# Altium footprint library PcbLib.PcbLib: 12 footprints
Each footprint in its own frame and in the unit in brackets; x right, y up, seen from the top. Pads: shape width x height; smd on the part's side, far side on the other; paste and mask are expansions set on the pad; w line width, h text height; cw(c..) or ccw(c..) is an arc to the next point about the centre after c.
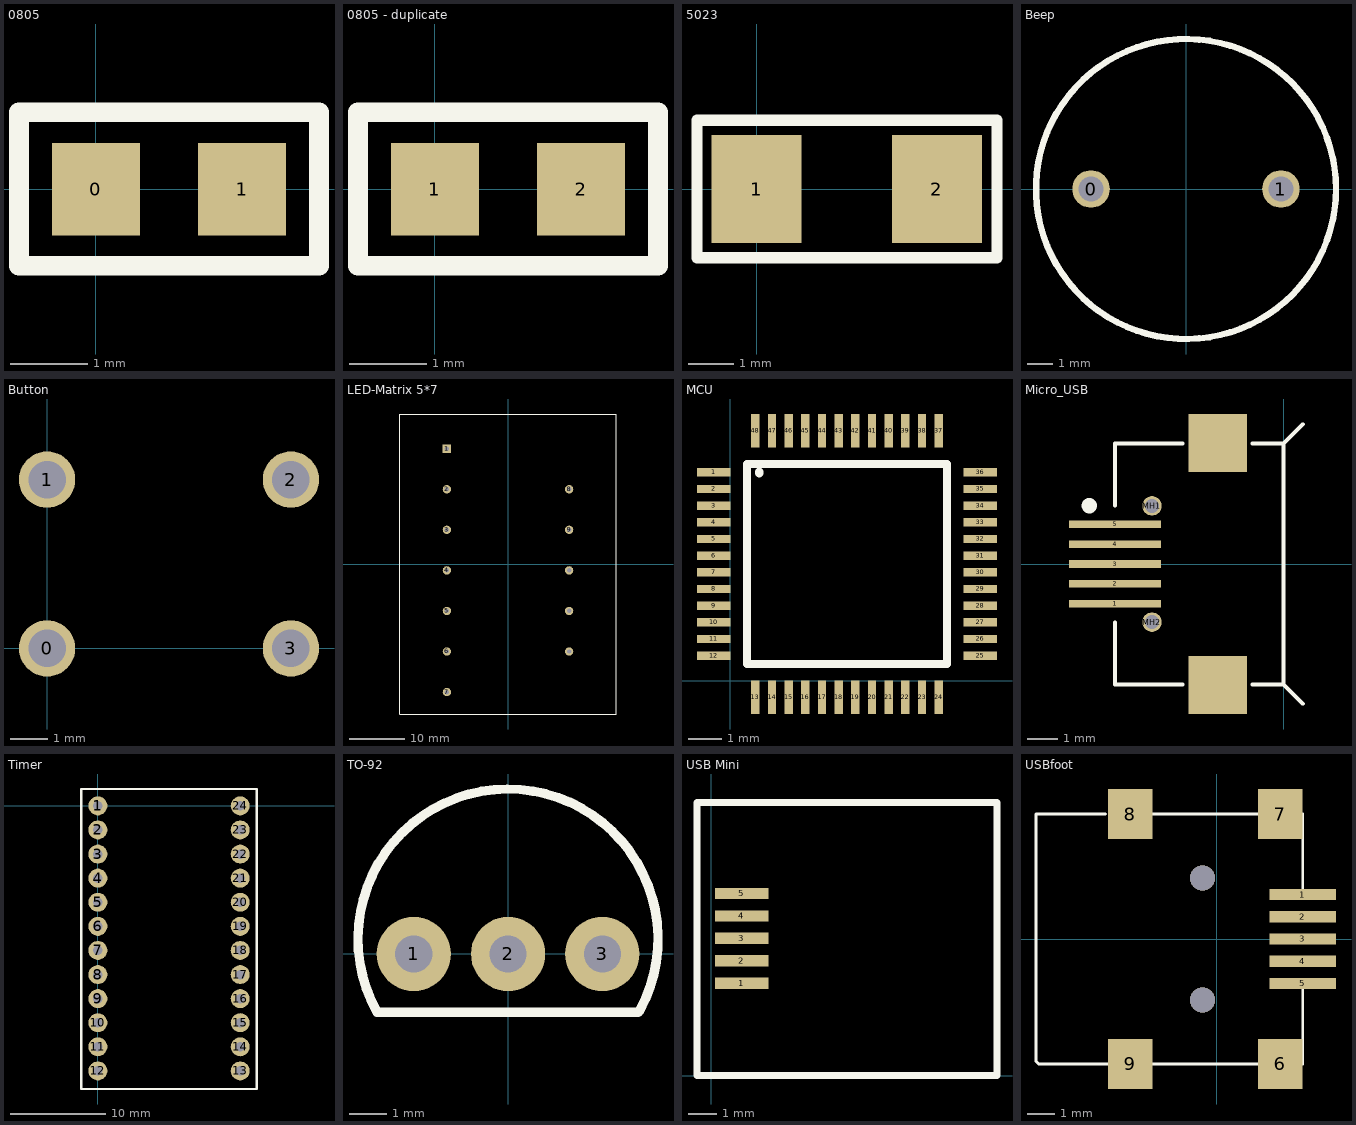
[diagram p0: the footprints below, top view; thin cyan lines are the x and y axes]

## 0805 [mm]
pads (2):
  rect 1.14x1.2 smd: 0(0,0) 1(1.9,0)
Top Overlay:
  lines w0.254: -1,-0.991 2.9,-0.991 2.9,1 -1,1 -1,-0.991

## 0805 - duplicate [mm]
pads (2):
  rect 1.14x1.2 smd: 1(0,0) 2(1.9,0)
Top Overlay:
  lines w0.254: -1,-0.991 -1,1 2.9,1 2.9,-0.991 -1,-0.991

## 5023 [mm]
pads (2):
  rect 2x2.4 smd: 1(0,0) 2(4,0)
Top Overlay:
  lines w0.254: -1.321,-1.524 5.334,-1.524 5.334,1.524 -1.321,1.524 -1.321,-1.524

## Beep [mm]
height 9
pads (2):
  round 1.5 hole 1: 0(-3.8,0) 1(3.8,0)
Top Overlay:
  circle w0.254: c0,0 r6

## Button [mm]
pads (4):
  round 1.5 hole 1: 0(0,0) 1(0,4.5) 2(6.5,4.5) 3(6.5,0)

## LED-Matrix 5*7 [mm] "LED"
pads (12):
  rect 1.5x1.5 hole 0.8: 1(-11,20.75)
  round 1.5 hole 0.8: 2(-11,13.45) 3(-11,6.15) 4(-11,-1.15) 5(-11,-8.45) 6(-11,-15.75) 7(-11,-23.05) 8(11,13.45) 9(11,6.15) 10(11,-1.15) 11(11,-8.45) 12(11,-15.75)
Top Overlay:
  lines w0.127: -19.5,-27 19.5,-27 19.5,27 -19.5,27 -19.5,-27
3D body: height 10, standoff -2.8, extent -19.5,-27 19.5,27

## MCU [mm]
pads (48):
  rect 1x0.25 smd: 1(-0.5,6.25) 2(-0.5,5.75) 3(-0.5,5.25) 4(-0.5,4.75) 5(-0.5,4.25) 6(-0.5,3.75) 7(-0.5,3.25) 8(-0.5,2.75) 9(-0.5,2.25) 10(-0.5,1.75) 11(-0.5,1.25) 12(-0.5,0.75) 25(7.5,0.75) 26(7.5,1.25) 27(7.5,1.75) 28(7.5,2.25) 29(7.5,2.75) 30(7.5,3.25) 31(7.5,3.75) 32(7.5,4.25) 33(7.5,4.75) 34(7.5,5.25) 35(7.5,5.75) 36(7.5,6.25)
  rect 0.25x1 smd: 13(0.75,-0.5) 14(1.25,-0.5) 15(1.75,-0.5) 16(2.25,-0.5) 17(2.75,-0.5) 18(3.25,-0.5) 19(3.75,-0.5) 20(4.25,-0.5) 21(4.75,-0.5) 22(5.25,-0.5) 23(5.75,-0.5) 24(6.25,-0.5) 37(6.25,7.5) 38(5.75,7.5) 39(5.25,7.5) 40(4.75,7.5) 41(4.25,7.5) 42(3.75,7.5) 43(3.25,7.5) 44(2.75,7.5) 45(2.25,7.5) 46(1.75,7.5) 47(1.25,7.5) 48(0.75,7.5)
Top Overlay:
  lines w0.254: 0.864,6.223 0.864,6.274 ; 0.5,0.5 0.5,6.5 6.5,6.5 6.5,0.5 0.5,0.5

## Micro_USB [mm]
pads (9):
  rect 3x0.25 smd: 1(-5.508,-1.3) 2(-5.508,-0.65) 3(-5.508,0) 4(-5.508,0.65) 5(-5.508,1.3)
  round 0.635 hole 0.457 unplated: MH1(-4.3,1.9) MH2(-4.3,-1.9)
  rect 1.9x1.9 smd: ""(-2.15,-3.95) ""(-2.15,3.95)
Top Overlay:
  circle w0.25: c-6.348,1.905 r0.125
  lines w0.127: -5.508,-3.937 -3.302,-3.937 ; -5.508,-3.9 -5.508,-1.905 ; -5.508,1.905 -5.508,3.9 ; -5.508,3.937 -3.302,3.937 ; -1.016,-3.937 0,-3.937 0.63,-4.567 ; -1.016,3.937 0,3.937 0.63,4.567 ; 0,-3.9 0,3.9

## Timer [mm]
pads (24):
  round 2 hole 1: 1(0,0) 2(0,-2.54) 3(0,-5.08) 4(0,-7.62) 5(0,-10.16) 6(0,-12.7) 7(0,-15.24) 8(0,-17.78) 9(0,-20.32) 10(0,-22.86) 11(0,-25.4) 12(0,-27.94) 13(15,-27.94) 14(15,-25.4) 15(15,-22.86) 16(15,-20.32) 17(15,-17.78) 18(15,-15.24) 19(15,-12.7) 20(15,-10.16) 21(15,-7.62) 22(15,-5.08) 23(15,-2.54) 24(15,0)
Top Overlay:
  lines w0.254: -1.778,-29.845 16.764,-29.845 16.764,1.778 -1.778,1.778 -1.778,-29.845

## TO-92 [mm]
pads (3):
  round 2 hole 1: 1(-2.54,0) 2(0,0) 3(2.54,0)
Top Overlay:
  lines w0.254: -3.531,-1.566 cw(c-0.002,0.404) 3.548,-1.527 3.509,-1.566 -3.531,-1.566

## USB Mini [mm]
pads (5):
  rect 1.9x0.4 smd: 1(1.1,3.3) 2(1.1,4.1) 3(1.1,4.9) 4(1.1,5.7) 5(1.1,6.5)
Top Overlay:
  lines w0.254: -0.5,0 10.2,0 10.2,9.75 -0.5,9.75 -0.5,0

## USBfoot [mm]
pads (9):
  rect 2.4x0.4 smd: 1(3.1,1.6) 2(3.1,0.8) 3(3.1,0) 4(3.1,-0.8) 5(3.1,-1.6)
  rect 1.6x1.8 smd: 6(2.3,-4.5) 7(2.3,4.5) 8(-3.1,4.5) 9(-3.1,-4.5)
via -0.5,-2.2 diameter 0.9 hole 0.9
via -0.5,2.2 diameter 0.9 hole 0.9
Top Overlay:
  lines w0.1: -4,4.5 -6.5,4.5 -6.5,-4.4 -6.4,-4.5 -3.9,-4.5 ; -2.3,-4.5 1.5,-4.5 ; -2.3,4.5 1.5,4.5 ; 3.1,-4.5 3.1,-1.8 ; 3.1,1.8 3.1,4.5